# EAGLE library part _IC_OPAMPX4_5-28V_(LM324DT) (library SamacSys_Parts)
LM324DT, Quad Operational Amplifier 1.3MHz 5 to 28V, 14-Pin SO Source: Datasheet <http://www.st.com/st-web-ui/static/active/en/resource/technical/document/datasheet/CD00000457.pdf>
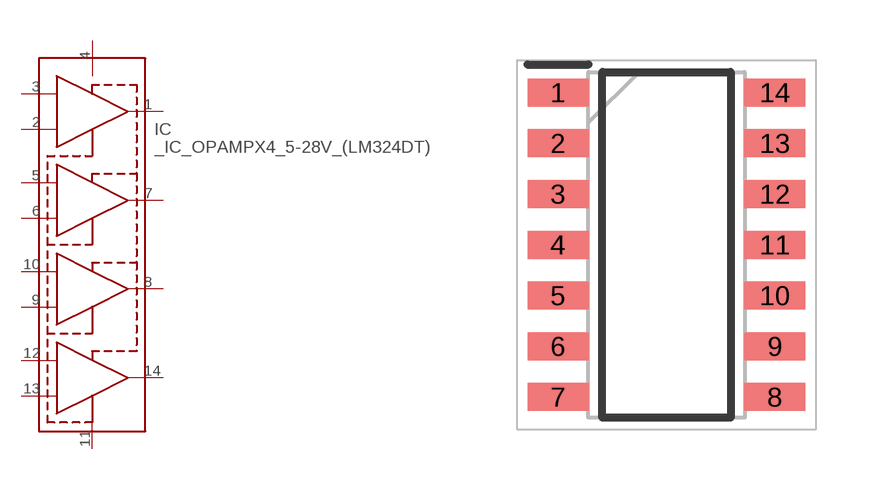
[diagram p40: symbol with the pads of SOIC127P600X175-14N; footprint SOIC127P600X175-14N]

Designator prefix IC

## _IC_OPAMPX4_5-28V_(LM324DT) (DESCRIPTION: LM324DT, Quad Operational Amplifier 1.3MHz 5 to 28V, 14-Pin SO; HEIGHT: 1.75mm; MANUFACTURER_NAME: STMicroelectronics; MANUFACTURER_PART_NUMBER: LM324DT; MOUSER_PART_NUMBER: 511-LM324D-TR; MOUSER_PRICE-STOCK: https://www.mouser.co.uk/ProductDetail/STMicroelectronics/LM324DT?qs=CsTVJ1OXCj5AnKfcRRRwqA%3D%3D)  [SOIC127P600X175-14N]
1  OUTPUT_1
2  INVERTING_INPUT_1
3  NON-INVERTING_INPUT_1
4  VCC+
5  NON-INVERTING_INPUT_2
6  INVERTING_INPUT2
7  OUTPUT_2
8  OUTPUT_3
9  INVERTING_INPUT_3
10  NON-INVERTING_INPUT_3
11  VCC-
12  NON-INVERTING_INPUT_4
13  INVERTING_INPUT_4
14  OUTPUT_4

## Footprint SOIC127P600X175-14N (pad centres in mm)
SO14
smd 1.525 x 0.7: 1 -2.712,3.81; 2 -2.712,2.54; 3 -2.712,1.27; 4 -2.712,0; 5 -2.712,-1.27; 6 -2.712,-2.54; 7 -2.712,-3.81; 8 2.712,-3.81; 9 2.712,-2.54; 10 2.712,-1.27; 11 2.712,0; 12 2.712,1.27; 13 2.712,2.54; 14 2.712,3.81